# Altium schematic symbol library 530470460.SchLib: 1 symbol
Pins are listed as number, name and electrical type; pins without a type are passive.

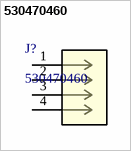
[diagram p0: symbol 530470460]

## 530470460
designator J?
1.25mm Pitch, PicoBlade PCB Header, Single Row, Vertical, Through Hole, Gold Flash Plating, Friction Lock, 4 Circuits, Tray, 2.30mm PC Tail Length; Manufacturer_Name: Molex Connector Corporation; Copyright: Copyright (C) 2025 Ultra Librarian. All rights reserved.; Manufacturer_Part_Number: 530470460; RefDes: RefDes; Type: Type
footprint CONN04_530470460_MOL
pins: 1, 2, 3, 4